# Altium footprint library ASP-134486-01.PcbLib: 1 footprints
Each footprint in its own frame and in the unit in brackets; x right, y up, seen from the top. Pads: shape width x height; smd on the part's side, far side on the other; paste and mask are expansions set on the pad; w line width, h text height; cw(c..) or ccw(c..) is an arc to the next point about the centre after c.
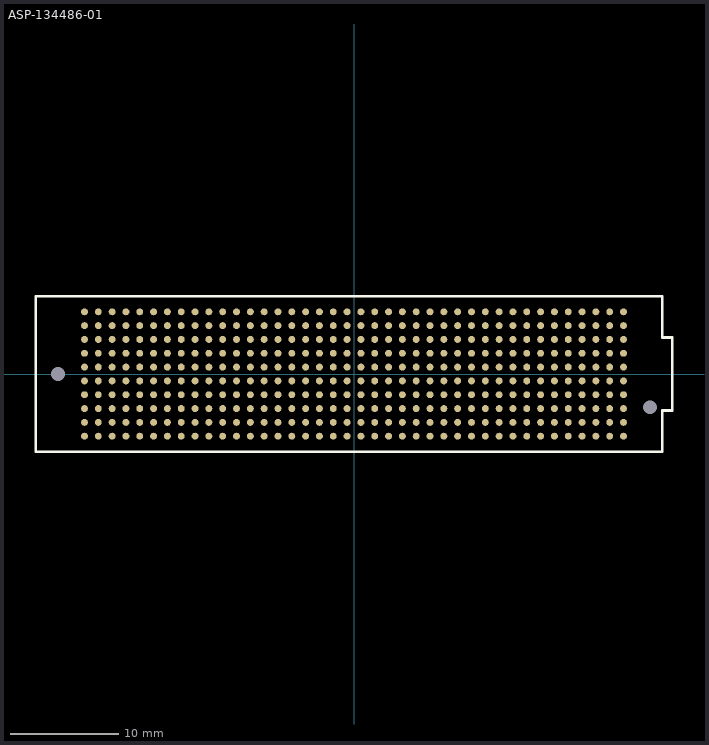
[diagram p0: the footprint, top view; thin cyan lines are the x and y axes]

## ASP-134486-01 [mil]
pads (402):
  round 25 smd paste+5 mask+2: A1(975,-225) A2(925,-225) A3(875,-225) A4(825,-225) A5(775,-225) A6(725,-225) A7(675,-225) A8(625,-225) A9(575,-225) A10(525,-225) A11(475,-225) A12(425,-225) A13(375,-225) A14(325,-225) A15(275,-225) A16(225,-225) A17(175,-225) A18(125,-225) A19(75,-225) A20(25,-225) A21(-25,-225) A22(-75,-225) A23(-125,-225) A24(-175,-225) A25(-225,-225) A26(-275,-225) A27(-325,-225) A28(-375,-225) A29(-425,-225) A30(-475,-225) A31(-525,-225) A32(-575,-225) A33(-625,-225) A34(-675,-225) A35(-725,-225) A36(-775,-225) A37(-825,-225) A38(-875,-225) A39(-925,-225) A40(-975,-225) B1(975,-175) B2(925,-175) B3(875,-175) B4(825,-175) B5(775,-175) B6(725,-175) B7(675,-175) B8(625,-175) B9(575,-175) B10(525,-175) B11(475,-175) B12(425,-175) B13(375,-175) B14(325,-175) B15(275,-175) B16(225,-175) B17(175,-175) B18(125,-175) B19(75,-175) B20(25,-175) B21(-25,-175) B22(-75,-175) B23(-125,-175) B24(-175,-175) B25(-225,-175) B26(-275,-175) B27(-325,-175) B28(-375,-175) B29(-425,-175) B30(-475,-175) B31(-525,-175) B32(-575,-175) B33(-625,-175) B34(-675,-175) B35(-725,-175) B36(-775,-175) B37(-825,-175) B38(-875,-175) B39(-925,-175) B40(-975,-175) C1(975,-125) C2(925,-125) C3(875,-125) C4(825,-125) C5(775,-125) C6(725,-125) C7(675,-125) C8(625,-125) C9(575,-125) C10(525,-125) C11(475,-125) C12(425,-125) C13(375,-125) C14(325,-125) C15(275,-125) C16(225,-125) C17(175,-125) C18(125,-125) C19(75,-125) C20(25,-125) C21(-25,-125) C22(-75,-125) C23(-125,-125) C24(-175,-125) C25(-225,-125) C26(-275,-125) C27(-325,-125) C28(-375,-125) C29(-425,-125) C30(-475,-125) C31(-525,-125) C32(-575,-125) C33(-625,-125) C34(-675,-125) C35(-725,-125) C36(-775,-125) C37(-825,-125) C38(-875,-125) C39(-925,-125) C40(-975,-125) D1(975,-75) D2(925,-75) D3(875,-75) D4(825,-75) D5(775,-75) D6(725,-75) D7(675,-75) D8(625,-75) D9(575,-75) D10(525,-75) D11(475,-75) D12(425,-75) D13(375,-75) D14(325,-75) D15(275,-75) D16(225,-75) D17(175,-75) D18(125,-75) D19(75,-75) D20(25,-75) D21(-25,-75) D22(-75,-75) D23(-125,-75) D24(-175,-75) D25(-225,-75) D26(-275,-75) D27(-325,-75) D28(-375,-75) D29(-425,-75) D30(-475,-75) D31(-525,-75) D32(-575,-75) D33(-625,-75) D34(-675,-75) D35(-725,-75) D36(-775,-75) D37(-825,-75) D38(-875,-75) D39(-925,-75) D40(-975,-75) E1(975,-25) E2(925,-25) E3(875,-25) E4(825,-25) E5(775,-25) E6(725,-25) E7(675,-25) E8(625,-25) E9(575,-25) E10(525,-25) E11(475,-25) E12(425,-25) E13(375,-25) E14(325,-25) E15(275,-25) E16(225,-25) E17(175,-25) E18(125,-25) E19(75,-25) E20(25,-25) E21(-25,-25) E22(-75,-25) E23(-125,-25) E24(-175,-25) E25(-225,-25) E26(-275,-25) E27(-325,-25) E28(-375,-25) E29(-425,-25) E30(-475,-25) E31(-525,-25) E32(-575,-25) E33(-625,-25) E34(-675,-25) E35(-725,-25) E36(-775,-25) E37(-825,-25) E38(-875,-25) E39(-925,-25) E40(-975,-25) F1(975,25) F2(925,25) F3(875,25) F4(825,25) F5(775,25) F6(725,25) F7(675,25) F8(625,25) F9(575,25) F10(525,25) F11(475,25) F12(425,25) F13(375,25) F14(325,25) F15(275,25) F16(225,25) F17(175,25) F18(125,25) F19(75,25) F20(25,25) F21(-25,25) F22(-75,25) F23(-125,25) F24(-175,25) F25(-225,25) F26(-275,25) F27(-325,25) F28(-375,25) F29(-425,25) F30(-475,25) F31(-525,25) F32(-575,25) F33(-625,25) F34(-675,25) F35(-725,25) F36(-775,25) F37(-825,25) F38(-875,25) F39(-925,25) F40(-975,25) G1(975,75) G2(925,75) G3(875,75) G4(825,75) G5(775,75) G6(725,75) G7(675,75) G8(625,75) G9(575,75) G10(525,75) G11(475,75) G12(425,75) G13(375,75) G14(325,75) G15(275,75) G16(225,75) G17(175,75) G18(125,75) G19(75,75) G20(25,75) G21(-25,75) G22(-75,75) G23(-125,75) G24(-175,75) G25(-225,75) G26(-275,75) G27(-325,75) G28(-375,75) G29(-425,75) G30(-475,75) G31(-525,75) G32(-575,75) G33(-625,75) G34(-675,75) G35(-725,75) G36(-775,75) G37(-825,75) G38(-875,75) G39(-925,75) G40(-975,75) H1(975,125) H2(925,125) H3(875,125) H4(825,125) H5(775,125) H6(725,125) H7(675,125) H8(625,125) H9(575,125) H10(525,125) H11(475,125) H12(425,125) H13(375,125) H14(325,125) H15(275,125) H16(225,125) H17(175,125) H18(125,125) H19(75,125) H20(25,125) H21(-25,125) H22(-75,125) H23(-125,125) H24(-175,125) H25(-225,125) H26(-275,125) H27(-325,125) H28(-375,125) H29(-425,125) H30(-475,125) H31(-525,125) H32(-575,125) H33(-625,125) H34(-675,125) H35(-725,125) H36(-775,125) H37(-825,125) H38(-875,125) H39(-925,125) H40(-975,125) J1(975,175) J2(925,175) J3(875,175) J4(825,175) J5(775,175) J6(725,175) J7(675,175) J8(625,175) J9(575,175) J10(525,175) J11(475,175) J12(425,175) J13(375,175) J14(325,175) J15(275,175) J16(225,175) J17(175,175) J18(125,175) J19(75,175) J20(25,175) J21(-25,175) J22(-75,175) J23(-125,175) J24(-175,175) J25(-225,175) J26(-275,175) J27(-325,175) J28(-375,175) J29(-425,175) J30(-475,175) J31(-525,175) J32(-575,175) J33(-625,175) J34(-675,175) J35(-725,175) J36(-775,175) J37(-825,175) J38(-875,175) J39(-925,175) J40(-975,175) K1(975,225) K2(925,225) K3(875,225) K4(825,225) K5(775,225) K6(725,225) K7(675,225) K8(625,225) K9(575,225) K10(525,225) K11(475,225) K12(425,225) K13(375,225) K14(325,225) K15(275,225) K16(225,225) K17(175,225) K18(125,225) K19(75,225) K20(25,225) K21(-25,225) K22(-75,225) K23(-125,225) K24(-175,225) K25(-225,225) K26(-275,225) K27(-325,225) K28(-375,225) K29(-425,225) K30(-475,225) K31(-525,225) K32(-575,225) K33(-625,225) K34(-675,225) K35(-725,225) K36(-775,225) K37(-825,225) K38(-875,225) K39(-925,225) K40(-975,225)
  round 0 hole 50 unplated: MH1(1070.5,-120) MH2(-1070.5,0)
Top Overlay:
  lines w10: -1151,-281.5 1115,-281.5 1115,-132 1151,-132 1151,132 1115,132 1115,281.5 -1151,281.5 -1151,-281.5
3D body "ASP-134486-01.step": height 268, standoff -40, extent -1130,-260 1132,261.1